# EAGLE library part INFO-AMAZONIA-MODULE (library InfoAmazonia)
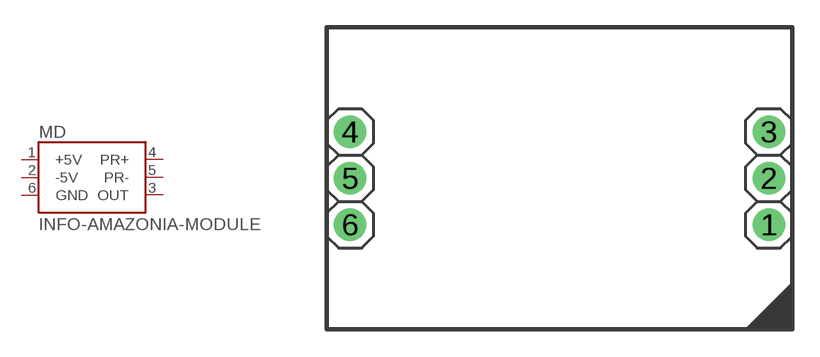
[diagram p16: symbol with the pads of INFO-AMAZONIA-MODULE; footprint INFO-AMAZONIA-MODULE]

Designator prefix MD

## INFO-AMAZONIA-MODULE  [INFO-AMAZONIA-MODULE]
1  +5V  pwr
2  -5V  pwr
3  OUT  out
4  PR+
5  PR-  in
6  GND

## Footprint INFO-AMAZONIA-MODULE (pad centres in mm)
drill 1.1 pad 1.778: 1 11.43,-2.54; 2 11.43,0; 3 11.43,2.54; 4 -11.43,2.54; 5 -11.43,0; 6 -11.43,-2.54